# Altium footprint library PCB - RELAY - AZSR1651A24DL.PCBLIB: 1 footprints
Each footprint in its own frame and in the unit in brackets; x right, y up, seen from the top. Pads: shape width x height; smd on the part's side, far side on the other; paste and mask are expansions set on the pad; w line width, h text height; cw(c..) or ccw(c..) is an arc to the next point about the centre after c.
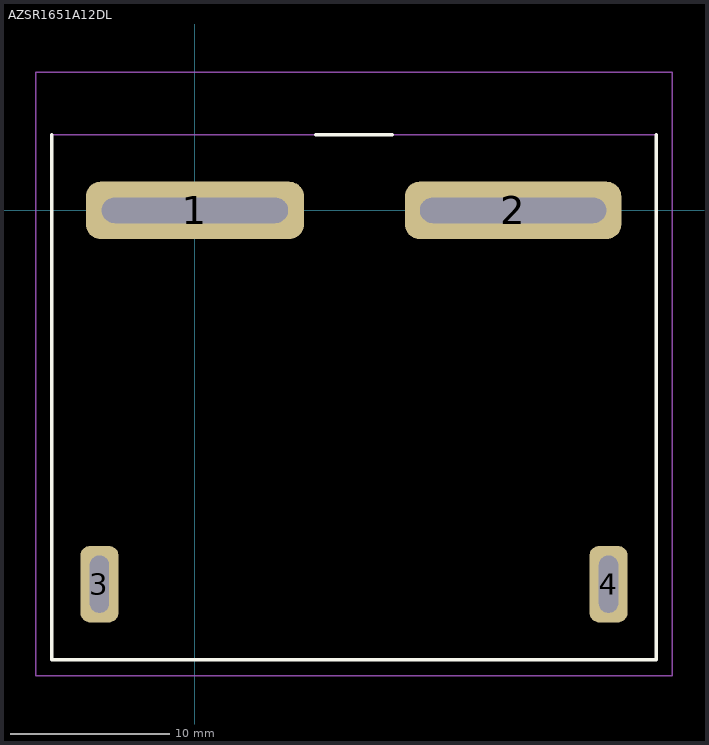
[diagram p0: the footprint, top view; thin cyan lines are the x and y axes]

## AZSR1651A12DL [mm]
pads (4):
  rrect50% 13.7x3.6 hole 1.6 slot 11.7 at 0 deg: 1(0,0)
  rrect50% 13.6x3.6 hole 1.6 slot 11.7 at 0 deg: 2(20,0)
  rrect50% 2.4x4.8 hole 1.2 slot 3.6 at 90 deg: 3(-6,-23.5) 4(26,-23.5)
Top Overlay:
  lines w0.2: -9,4.75 -9,-28.25 29,-28.25 29,4.75 ; 7.6,4.75 12.4,4.75
Top Assembly:
  lines w0.1: -9,-28.25 29,-28.25 29,4.75 -9,4.75 -9,-28.25
Top Courtyard:
  lines w0.1: -10,-29.25 30,-29.25 30,8.672 -10,8.672 -10,-29.25
Top Designator (Mech9):
  text ".Designator" at 2.382,-12.008 h1.52
Top Dimensions:
  lines w0.1: -9,-28.25 -9,4.75 29,4.75 29,-28.25 -9,-28.25
3D body "AZSR165-1A-12DL.stp": height 42.1, standoff -5, extent -9,-28.25 29,5.01